# Altium integrated library ECS-80-10-33-CHN-TR3.IntLib: 1 symbol
Pins are listed as number, name and electrical type; pins without a type are passive.

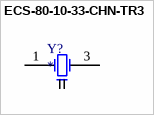
[diagram p0: symbol ECS-80-10-33-CHN-TR3]

## ECS-80-10-33-CHN-TR3
designator Y?
ComponentLink1Description: datasheet; ComponentLink1URL: https://www.mouser.es/datasheet/2/122/ecx_32-1888651.pdf; ComponentLink2Description: mouser; ComponentLink2URL: https://www.mouser.es/ProductDetail/ECS/ECS-80-10-33-CHN-TR3?qs=e8oIoAS2J1RsyhGWcbRgtQ%3D%3D
footprint Model Name (Footprint not found)
footprint 3.2x2.5mm
pins: 1 OSC1, 2, 3 OSC2, 4